# EAGLE library part IC_TI_TPA3111D1 (library PCB_KioskMB_r3.3-05)
TI TPA3111D1 amp
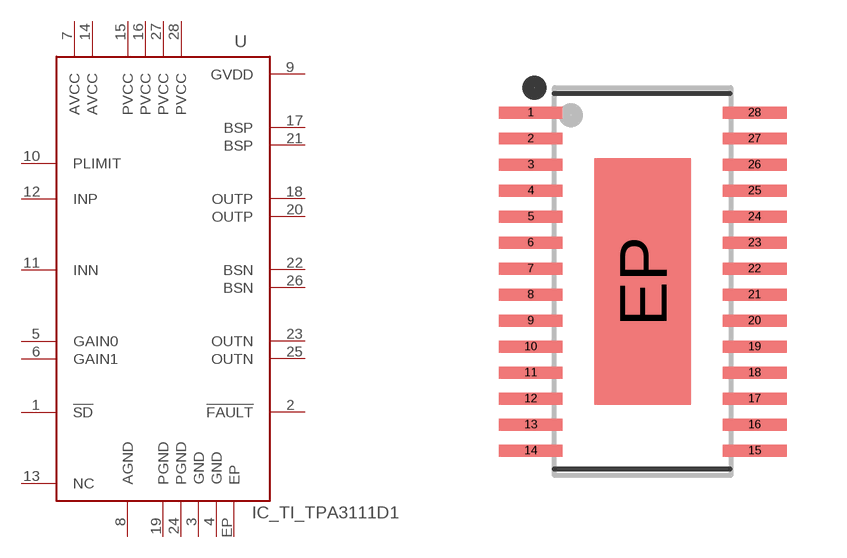
[diagram p1: symbol with the pads of TSSOP28_EP; footprint TSSOP28_EP]

Designator prefix U

## IC_TI_TPA3111D1PWP (MANUFACTURER: TI; MFR_PN: TPA3111D1PWP)  [TSSOP28_EP]
1  !SD  in
2  !FAULT  out
3  GND  pwr
4  GND  pwr
5  GAIN0  in
6  GAIN1  in
7  AVCC  pwr
8  AGND  pwr
9  GVDD  out
10  PLIMIT  in
11  INN  in
12  INP  in
13  NC  nc
14  AVCC  pwr
15  PVCC  pwr
16  PVCC  pwr
17  BSP  in
18  OUTP  out
19  PGND  pwr
20  OUTP  out
21  BSP  in
22  BSN  in
23  OUTN  out
24  PGND  pwr
25  OUTN  out
26  BSN  in
27  PVCC  pwr
28  PVCC  pwr
EP  EP  pwr

## Footprint TSSOP28_EP (pad centres in mm)
Power TSSOP 28-pin with exposed pad TI PWP pkg.
smd 1.6 x 0.3: 1 -2.8,4.225; 2 -2.8,3.575; 3 -2.8,2.925; 4 -2.8,2.275; 5 -2.8,1.625; 6 -2.8,0.975; 7 -2.8,0.325; 8 -2.8,-0.325; 9 -2.8,-0.975; 10 -2.8,-1.625; 11 -2.8,-2.275; 12 -2.8,-2.925; 13 -2.8,-3.575; 14 -2.8,-4.225; 15 2.8,-4.225; 16 2.8,-3.575; 17 2.8,-2.925; 18 2.8,-2.275; 19 2.8,-1.625; 20 2.8,-0.975; 21 2.8,-0.325; 22 2.8,0.325; 23 2.8,0.975; 24 2.8,1.625; 25 2.8,2.275; 26 2.8,2.925; 27 2.8,3.575; 28 2.8,4.225
smd 2.4 x 6.17: EP 0,0